# EAGLE library part XBEE_S2C_SMD (library dr-library)
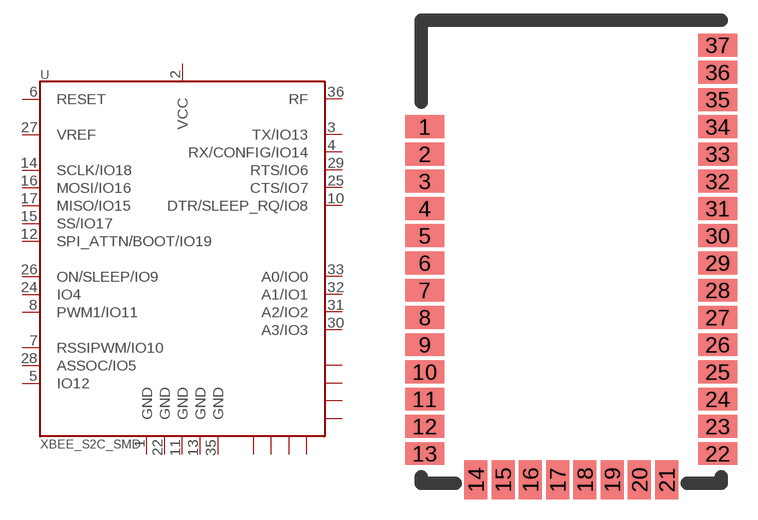
[diagram p1: symbol with the pads of XBEE_S2C_SMD; footprint XBEE_S2C_SMD]

Designator prefix U

## XBEE_S2C_SMDSMD  [XBEE_S2C_SMD]
1  GND
2  VCC
3  TX/IO13
4  RX/CONFIG/IO14
5  IO12
6  RESET
7  RSSIPWM/IO10
8  PWM1/IO11
9  N/C  nc
10  DTR/SLEEP_RQ/IO8
11  GND
12  SPI_ATTN/BOOT/IO19
13  GND
14  SCLK/IO18
15  SS/IO17
16  MOSI/IO16
17  MISO/IO15
18  N/C  nc
19  N/C  nc
20  N/C  nc
21  N/C  nc
22  GND
23  N/C  nc
24  IO4
25  CTS/IO7
26  ON/SLEEP/IO9
27  VREF
28  ASSOC/IO5
29  RTS/IO6
30  A3/IO3
31  A2/IO2
32  A1/IO1
33  A0/IO0
34  N/C  nc
35  GND
36  RF
37  N/C  nc

## Footprint XBEE_S2C_SMD (pad centres in mm)
smd 2.84 x 1.68: 1 -10.745,9.19; 2 -10.745,7.19; 3 -10.745,5.19; 4 -10.745,3.19; 5 -10.745,1.19; 6 -10.745,-0.81; 7 -10.745,-2.81; 8 -10.745,-4.81; 9 -10.745,-6.81; 10 -10.745,-8.81; 11 -10.745,-10.81; 12 -10.745,-12.81; 13 -10.745,-14.81; 22 10.745,-14.81; 23 10.745,-12.81; 24 10.745,-10.81; 25 10.745,-8.81; 26 10.745,-6.81; 27 10.745,-4.81; 28 10.745,-2.81; 29 10.745,-0.81; 30 10.745,1.19; 31 10.745,3.19; 32 10.745,5.19; 33 10.745,7.19; 34 10.745,9.19; 35 10.745,11.19; 36 10.745,13.19; 37 10.745,15.19
smd 1.68 x 2.84: 14 -7,-16.73; 15 -5,-16.73; 16 -3,-16.73; 17 -1,-16.73; 18 1,-16.73; 19 3,-16.73; 20 5,-16.73; 21 7,-16.73